# EAGLE library part USD-1040310811 (library 1040310811)
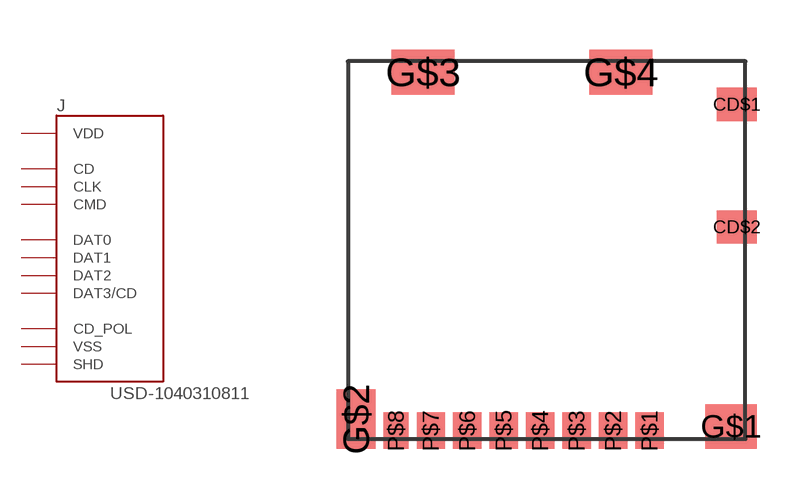
[diagram p0: symbol with the pads of 1040310811; footprint 1040310811]

Designator prefix J

## USD-1040310811  [1040310811]
CD$1  CD  pwr
CD$2  CD_POL  pwr
G$1  SHD  pwr
G$2  SHD  pwr
G$3  SHD  pwr
G$4  SHD  pwr
P$1  DAT2
P$2  DAT3/CD
P$3  CMD
P$4  VDD  pwr
P$5  CLK
P$6  VSS  pwr
P$7  DAT0
P$8  DAT1

## Footprint 1040310811 (pad centres in mm)
smd 1.2 x 1: CD$1 11.74,10.1; CD$2 11.74,6.4
smd 1.55 x 1.35: G$1 11.565,0.375
smd 1.17 x 1.8: G$2 0.245,0.6
smd 1.9 x 1.35: G$3 2.27,11.075; G$4 8.24,11.075
smd 0.85 x 1.1: P$1 9.105,0.25; P$2 8.005,0.25; P$3 6.905,0.25; P$4 5.805,0.25; P$5 4.705,0.25; P$6 3.605,0.25; P$7 2.505,0.25
smd 0.75 x 1.1: P$8 1.455,0.25